# Altium footprint library PCB Chip Resistor.PcbLib: 30 footprints (part 2 of 2)
Each footprint in its own frame and in the unit in brackets; x right, y up, seen from the top. Pads: shape width x height; smd on the part's side, far side on the other; paste and mask are expansions set on the pad; w line width, h text height; cw(c..) or ccw(c..) is an arc to the next point about the centre after c.
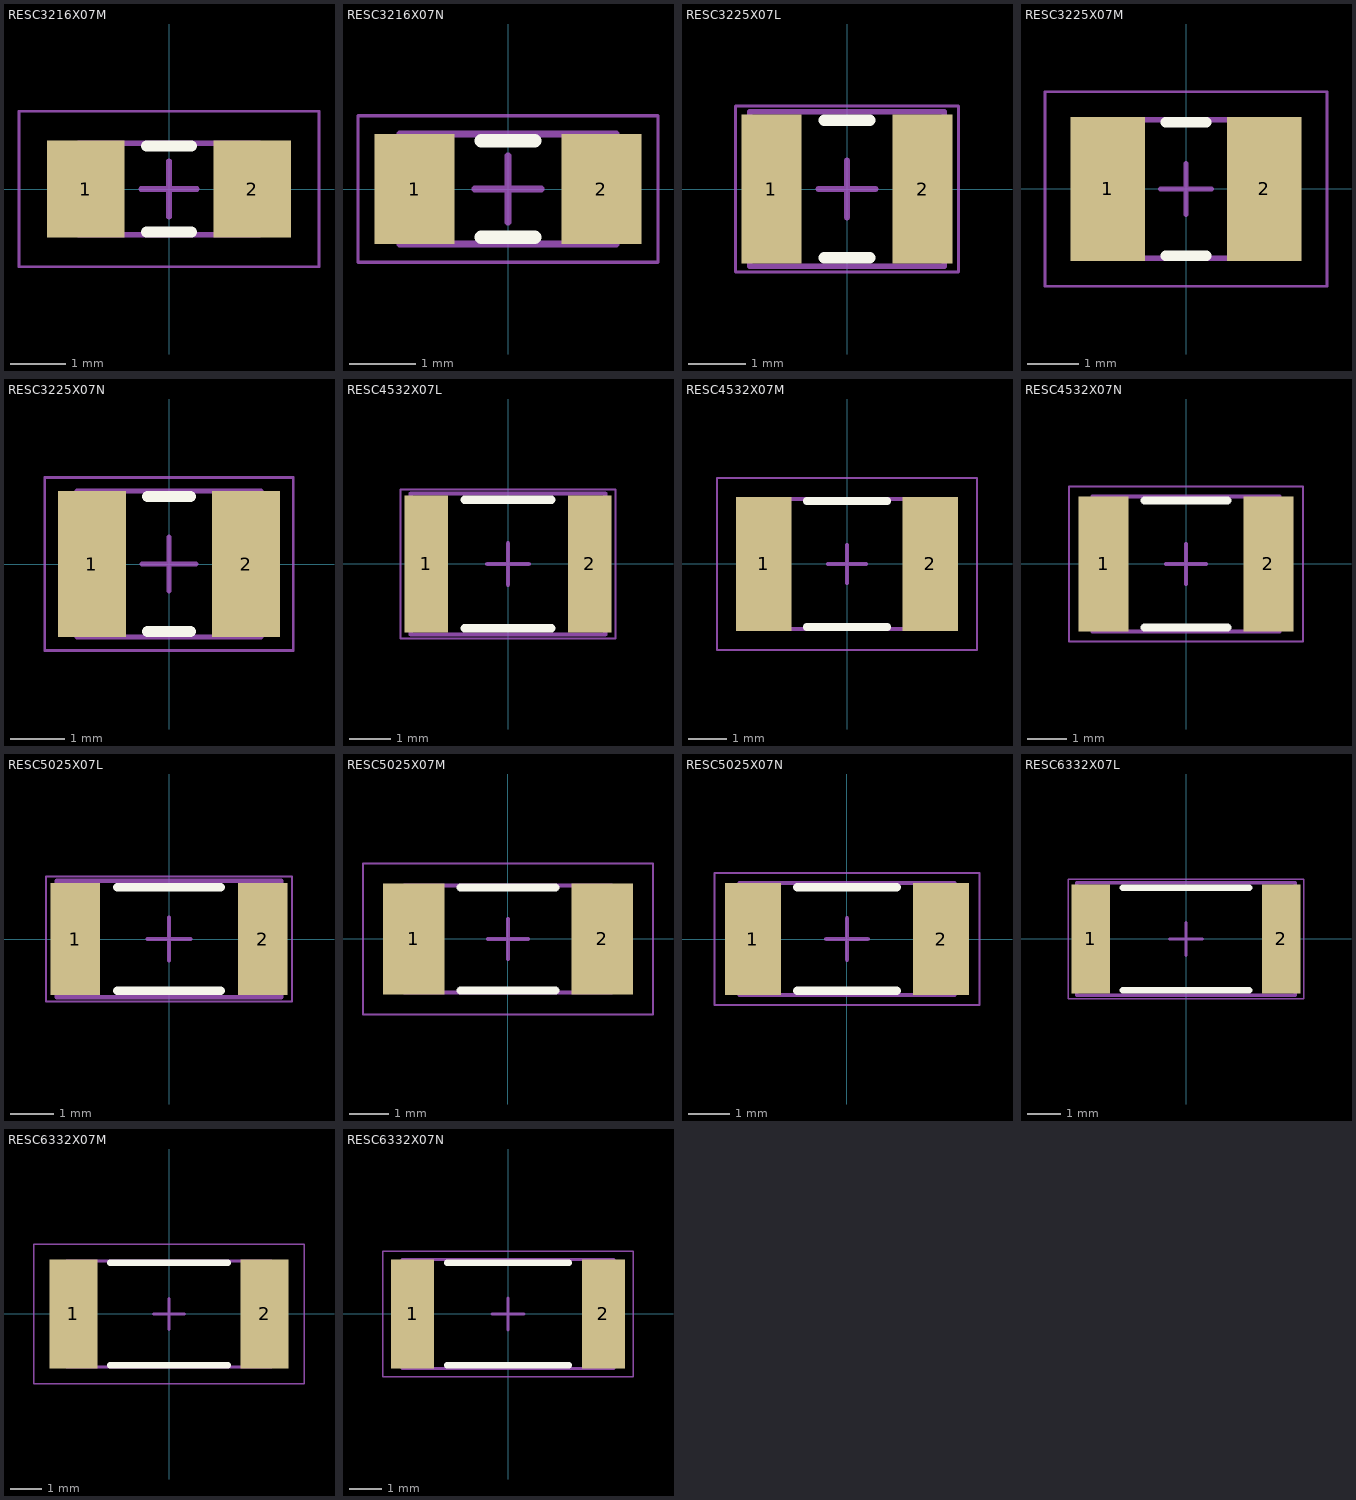
[diagram p1: the footprints below, top view; thin cyan lines are the x and y axes]

## RESC3216X07M [mm] "Chip Resistor, Body 3.2x1.6mm, IPC Low Density (1206 Imperial)"
height 0.7
pads (2):
  rect 1.4x1.75 smd: 1(-1.5,0) 2(1.5,0)
Top Overlay:
  lines w0.2: -0.4,-0.775 0.4,-0.775 ; -0.4,0.775 0.4,0.775
Mechanical 13:
  lines w0.1: -1.625,-0.825 1.625,-0.825 1.625,0.825 -1.625,0.825 -1.625,-0.825
Mechanical 15:
  lines w0.05: -2.7,-1.4 2.7,-1.4 2.7,1.4 -2.7,1.4 -2.7,-1.4
  lines w0.1: -0.5,0 0.5,0 ; 0,-0.5 0,0.5
3D body "RESC3115X07M.step": height 0.7, standoff 0, extent -1.625,-0.825 1.625,0.825

## RESC3216X07N [mm] "Chip Resistor, Body 3.2x1.6mm, IPC Medium Density (1206 Imperial)"
height 0.7
pads (2):
  rect 1.2x1.65 smd: 1(-1.4,0) 2(1.4,0)
Top Overlay:
  lines w0.2: -0.4,-0.725 0.4,-0.725 ; -0.4,0.725 0.4,0.725
Mechanical 13:
  lines w0.1: -1.625,-0.825 1.625,-0.825 1.625,0.825 -1.625,0.825 -1.625,-0.825
Mechanical 15:
  lines w0.05: -2.25,-1.1 2.25,-1.1 2.25,1.1 -2.25,1.1 -2.25,-1.1
  lines w0.1: -0.5,0 0.5,0 ; 0,-0.5 0,0.5
3D body "RESC3115X07N.step": height 0.7, standoff 0, extent -1.625,-0.825 1.625,0.825

## RESC3225X07L [mm] "Chip Resistor, Body 3.2x2.5mm, IPC High Density (1210 Imperial)"
height 0.7
pads (2):
  rect 1.05x2.6 smd: 1(-1.325,0) 2(1.325,0)
Top Overlay:
  lines w0.2: -0.4,-1.2 0.4,-1.2 ; -0.4,1.2 0.4,1.2
Mechanical 13:
  lines w0.1: -1.7,-1.35 1.7,-1.35 1.7,1.35 -1.7,1.35 -1.7,-1.35
Mechanical 15:
  lines w0.05: -1.95,-1.45 1.95,-1.45 1.95,1.45 -1.95,1.45 -1.95,-1.45
  lines w0.1: -0.5,0 0.5,0 ; 0,-0.5 0,0.5
3D body "RESC3225X07L.step": height 0.7, standoff 0, extent -1.7,-1.35 1.7,1.35

## RESC3225X07M [mm] "Chip Resistor, Body 3.2x2.5mm, IPC Low Density (1210 Imperial)"
height 0.7
pads (2):
  rect 1.45x2.8 smd: 1(-1.525,0) 2(1.525,0)
Top Overlay:
  lines w0.2: -0.4,-1.3 0.4,-1.3 ; -0.4,1.3 0.4,1.3
Mechanical 13:
  lines w0.1: -1.7,-1.35 1.7,-1.35 1.7,1.35 -1.7,1.35 -1.7,-1.35
Mechanical 15:
  lines w0.05: -2.75,-1.9 2.75,-1.9 2.75,1.9 -2.75,1.9 -2.75,-1.9
  lines w0.1: -0.5,0 0.5,0 ; 0,-0.5 0,0.5
3D body "RESC3225X07M.step": height 0.7, standoff 0, extent -1.7,-1.35 1.7,1.35

## RESC3225X07N [mm] "Chip Resistor, Body 3.2x2.5mm, IPC Medium Density (1210 Imperial)"
height 0.7
pads (2):
  rect 1.25x2.7 smd: 1(-1.425,0) 2(1.425,0)
Top Overlay:
  lines w0.2: -0.4,-1.25 0.4,-1.25 ; -0.4,1.25 0.4,1.25
Mechanical 13:
  lines w0.1: -1.7,-1.35 1.7,-1.35 1.7,1.35 -1.7,1.35 -1.7,-1.35
Mechanical 15:
  lines w0.05: -2.3,-1.6 2.3,-1.6 2.3,1.6 -2.3,1.6 -2.3,-1.6
  lines w0.1: -0.5,0 0.5,0 ; 0,-0.5 0,0.5
3D body "RESC3225X07N.step": height 0.7, standoff 0, extent -1.7,-1.35 1.7,1.35

## RESC4532X07L [mm] "Chip Resistor, Body 4.5x3.2mm, IPC High Density (1812 Imperial)"
height 0.7
pads (2):
  rect 1.05x3.3 smd: 1(-1.975,0) 2(1.975,0)
Top Overlay:
  lines w0.2: -1.05,-1.55 1.05,-1.55 ; -1.05,1.55 1.05,1.55
Mechanical 13:
  lines w0.1: -2.35,-1.7 2.35,-1.7 2.35,1.7 -2.35,1.7 -2.35,-1.7
Mechanical 15:
  lines w0.05: -2.6,-1.8 2.6,-1.8 2.6,1.8 -2.6,1.8 -2.6,-1.8
  lines w0.1: -0.5,0 0.5,0 ; 0,-0.5 0,0.5
3D body "RESC4532X07L.step": height 0.7, standoff 0, extent -2.35,-1.7 2.35,1.7

## RESC4532X07M [mm] "Chip Resistor, Body 4.5x3.2mm, IPC Low Density (1812 Imperial)"
height 0.7
pads (2):
  rect 1.45x3.5 smd: 1(-2.175,0) 2(2.175,0)
Top Overlay:
  lines w0.2: -1.05,-1.65 1.05,-1.65 ; -1.05,1.65 1.05,1.65
Mechanical 13:
  lines w0.1: -2.35,-1.7 2.35,-1.7 2.35,1.7 -2.35,1.7 -2.35,-1.7
Mechanical 15:
  lines w0.05: -3.4,-2.25 3.4,-2.25 3.4,2.25 -3.4,2.25 -3.4,-2.25
  lines w0.1: -0.5,0 0.5,0 ; 0,-0.5 0,0.5
3D body "RESC4532X07M.step": height 0.7, standoff 0, extent -2.35,-1.7 2.35,1.7

## RESC4532X07N [mm] "Chip Resistor, Body 4.5x3.2mm, IPC Medium Density (1812 Imperial)"
height 0.7
pads (2):
  rect 1.25x3.4 smd: 1(-2.075,0) 2(2.075,0)
Top Overlay:
  lines w0.2: -1.05,-1.6 1.05,-1.6 ; -1.05,1.6 1.05,1.6
Mechanical 13:
  lines w0.1: -2.35,-1.7 2.35,-1.7 2.35,1.7 -2.35,1.7 -2.35,-1.7
Mechanical 15:
  lines w0.05: -2.95,-1.95 2.95,-1.95 2.95,1.95 -2.95,1.95 -2.95,-1.95
  lines w0.1: -0.5,0 0.5,0 ; 0,-0.5 0,0.5
3D body "RESC4532X07N.step": height 0.7, standoff 0, extent -2.35,-1.7 2.35,1.7

## RESC5025X07L [mm] "Chip Resistor, Body 5.0x2.5mm, IPC High Density (2010 Imperial)"
height 0.7
pads (2):
  rect 1.15x2.6 smd: 1(-2.175,0) 2(2.175,0)
Top Overlay:
  lines w0.2: -1.2,-1.2 1.2,-1.2 ; -1.2,1.2 1.2,1.2
Mechanical 13:
  lines w0.1: -2.6,-1.35 2.6,-1.35 2.6,1.35 -2.6,1.35 -2.6,-1.35
Mechanical 15:
  lines w0.05: -2.85,-1.45 2.85,-1.45 2.85,1.45 -2.85,1.45 -2.85,-1.45
  lines w0.1: -0.5,0 0.5,0 ; 0,-0.5 0,0.5
3D body "RESC5025X07L.step": height 0.7, standoff 0, extent -2.6,-1.35 2.6,1.35

## RESC5025X07M [mm] "Chip Resistor, Body 5.0x2.5mm, IPC Low Density (2010 Imperial)"
height 0.7
pads (2):
  rect 1.55x2.8 smd: 1(-2.375,0) 2(2.375,0)
Top Overlay:
  lines w0.2: -1.2,-1.3 1.2,-1.3 ; -1.2,1.3 1.2,1.3
Mechanical 13:
  lines w0.1: -2.6,-1.35 2.6,-1.35 2.6,1.35 -2.6,1.35 -2.6,-1.35
Mechanical 15:
  lines w0.05: -3.65,-1.9 3.65,-1.9 3.65,1.9 -3.65,1.9 -3.65,-1.9
  lines w0.1: -0.5,0 0.5,0 ; 0,-0.5 0,0.5
3D body "RESC5025X07M.step": height 0.7, standoff 0, extent -2.6,-1.35 2.6,1.35

## RESC5025X07N [mm] "Chip Resistor, Body 5.0x2.5mm, IPC Medium Density (2010 Imperial)"
height 0.7
pads (2):
  rect 1.35x2.7 smd: 1(-2.275,0) 2(2.275,0)
Top Overlay:
  lines w0.2: -1.2,-1.25 1.2,-1.25 ; -1.2,1.25 1.2,1.25
Mechanical 13:
  lines w0.1: -2.6,-1.35 2.6,-1.35 2.6,1.35 -2.6,1.35 -2.6,-1.35
Mechanical 15:
  lines w0.05: -3.2,-1.6 3.2,-1.6 3.2,1.6 -3.2,1.6 -3.2,-1.6
  lines w0.1: -0.5,0 0.5,0 ; 0,-0.5 0,0.5
3D body "RESC5025X07N.step": height 0.7, standoff 0, extent -2.6,-1.35 2.6,1.35

## RESC6332X07L [mm] "Chip Resistor, Body 6.3x3.2mm, IPC High Density (2512 Imperial)"
height 0.7
pads (2):
  rect 1.15x3.3 smd: 1(-2.875,0) 2(2.875,0)
Top Overlay:
  lines w0.2: -1.9,-1.55 1.9,-1.55 ; -1.9,1.55 1.9,1.55
Mechanical 13:
  lines w0.1: -3.3,-1.7 3.3,-1.7 3.3,1.7 -3.3,1.7 -3.3,-1.7
Mechanical 15:
  lines w0.05: -3.55,-1.8 3.55,-1.8 3.55,1.8 -3.55,1.8 -3.55,-1.8
  lines w0.1: -0.5,0 0.5,0 ; 0,-0.5 0,0.5
3D body "RESC6432X07L.step": height 0.7, standoff 0, extent -3.3,-1.7 3.3,1.7

## RESC6332X07M [mm] "Chip Resistor, Body 6.3x3.2mm, IPC Low Density (2512 Imperial)"
height 0.7
pads (2):
  rect 1.55x3.5 smd: 1(-3.075,0) 2(3.075,0)
Top Overlay:
  lines w0.2: -1.9,-1.65 1.9,-1.65 ; -1.9,1.65 1.9,1.65
Mechanical 13:
  lines w0.1: -3.3,-1.7 3.3,-1.7 3.3,1.7 -3.3,1.7 -3.3,-1.7
Mechanical 15:
  lines w0.05: -4.35,-2.25 4.35,-2.25 4.35,2.25 -4.35,2.25 -4.35,-2.25
  lines w0.1: -0.5,0 0.5,0 ; 0,-0.5 0,0.5
3D body "RESC6432X07M.step": height 0.7, standoff 0, extent -3.3,-1.7 3.3,1.7

## RESC6332X07N [mm] "Chip Resistor, Body 6.3x3.2mm, IPC Medium Density (2512 Imperial)"
height 0.7
pads (2):
  rect 1.35x3.4 smd: 1(-2.975,0) 2(2.975,0)
Top Overlay:
  lines w0.2: -1.9,-1.6 1.9,-1.6 ; -1.9,1.6 1.9,1.6
Mechanical 13:
  lines w0.1: -3.3,-1.7 3.3,-1.7 3.3,1.7 -3.3,1.7 -3.3,-1.7
Mechanical 15:
  lines w0.05: -3.9,-1.95 3.9,-1.95 3.9,1.95 -3.9,1.95 -3.9,-1.95
  lines w0.1: -0.5,0 0.5,0 ; 0,-0.5 0,0.5
3D body "RESC6432X07N.step": height 0.7, standoff 0, extent -3.3,-1.7 3.3,1.7